# Altium footprint library IR.PcbLib: 7 footprints
Each footprint in its own frame and in the unit in brackets; x right, y up, seen from the top. Pads: shape width x height; smd on the part's side, far side on the other; paste and mask are expansions set on the pad; w line width, h text height; cw(c..) or ccw(c..) is an arc to the next point about the centre after c.
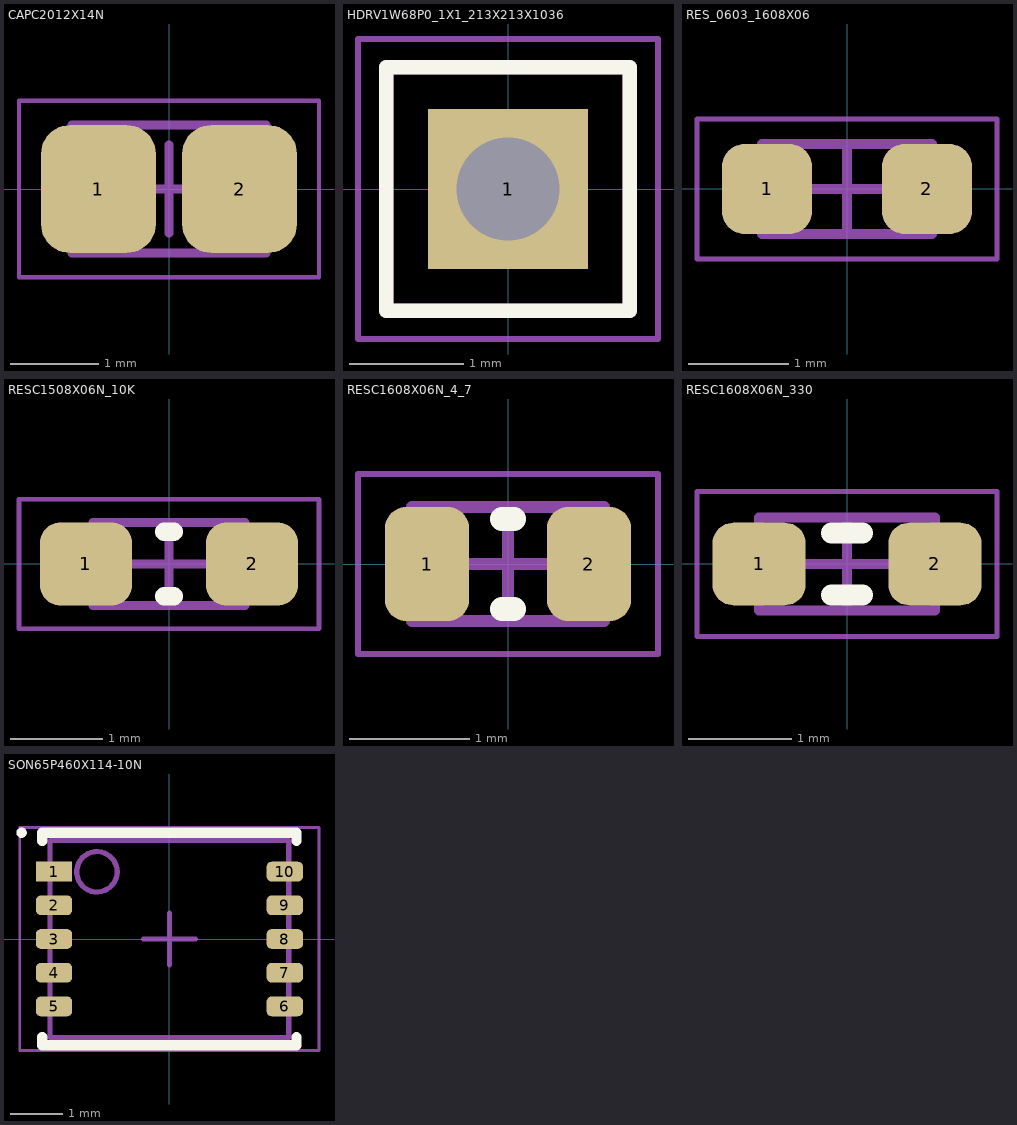
[diagram p0: the footprints below, top view; thin cyan lines are the x and y axes]

## CAPC2012X14N [mm] "Chip Capacitor, 2-Leads, Body 2.00x1.25mm, IPC Medium Density"
height 1.45
pads (2):
  rrect50% 1.3x1.45 smd mask+0.09: 1(-0.8,0) 2(0.8,0)
Mechanical 13:
  lines w0.1: -1.1,-0.725 1.1,-0.725 1.1,0.725 -1.1,0.725 -1.1,-0.725
  text ".Designator" at -0.865,-0.548 h0.8
Mechanical 15:
  lines w0.05: -1.7,-1 1.7,-1 1.7,1 -1.7,1 -1.7,-1
  lines w0.1: -0.5,0 0.5,0 ; 0,-0.5 0,0.5
3D body: height 1.45, standoff 0, extent 0.6,-0.725 1.1,0.725
3D body: height 1.45, standoff 0, extent -1.1,-0.725 -0.6,0.725
3D body: height 1.45, standoff 0, extent -0.6,-0.725 0.6,0.725

## HDRV1W68P0_1X1_213X213X1036 [mm]
pads (1):
  rect 1.408x1.408 hole 0.9: 1(0,0)
Top Overlay:
  lines w0.127: -1.067,-1.067 1.067,-1.067 1.067,1.067 -1.067,1.067 -1.067,-1.067
Mechanical 13:
  lines w0.127: -1.067,-1.067 1.067,-1.067 1.067,1.067 -1.067,1.067 -1.067,-1.067
  text ".Designator" at -0.686,-0.739 h1.44
Mechanical 15:
  lines w0.05: -1.317,-1.317 1.317,-1.317 1.317,1.317 -1.317,1.317 -1.317,-1.317
3D body "87224-1--3DModel-STEP-1.STEP": height 8.08, standoff -5.46, extent -1.067,-1.168 1.067,1.169

## RES_0603_1608X06 [mm] "Chip Resistor, 2-Leads, Body 1.60x0.80mm, IPC Medium Density"
height 0.55
pads (2):
  rrect50% 0.9x0.9 smd: 1(-0.8,0) 2(0.8,0)
Mechanical 13:
  lines w0.1: -0.85,-0.45 0.85,-0.45 0.85,0.45 -0.85,0.45 -0.85,-0.45
  text ".Designator" at -0.635,-0.254 h0.4
Mechanical 15:
  lines w0.05: -1.5,-0.7 1.5,-0.7 1.5,0.7 -1.5,0.7 -1.5,-0.7
  lines w0.1: -0.45,0 0.45,0 ; 0,-0.45 0,0.45
3D body "0603_1608X05N.step": height 0.45, standoff 0, extent -0.775,-0.425 0.775,0.425

## RESC1508X06N_10K [mm] "10k ohm, Chip Resistor, 2-Leads, Body 1.55x0.80mm, IPC Medium Density"
height 0.55
pads (2):
  rrect50% 1x0.9 smd: 1(-0.9,0) 2(0.9,0)
Top Overlay:
  lines w0.2: -0.05,-0.35 0.05,-0.35 ; -0.05,0.35 0.05,0.35
Mechanical 13:
  lines w0.1: -0.825,-0.45 0.825,-0.45 0.825,0.45 -0.825,0.45 -0.825,-0.45
  text ".Designator" at -0.51,-0.249 h0.4
Mechanical 15:
  lines w0.05: -1.626,-0.7 1.626,-0.7 1.626,0.7 -1.626,0.7 -1.626,-0.7
  lines w0.1: -0.45,0 0.45,0 ; 0,-0.45 0,0.45
3D body: height 0.55, standoff 0, extent 0.525,-0.45 0.825,0.45
3D body: height 0.55, standoff 0, extent -0.825,-0.45 -0.525,0.45
3D body: height 0.55, standoff 0, extent -0.525,-0.45 0.525,0.45

## RESC1608X06N_4_7 [mm] "4.7k ohm, Chip Resistor, 2-Leads, Body 1.55x0.85mm, IPC Medium Density"
height 0.55
pads (2):
  rrect50% 0.7x0.95 smd: 1(-0.675,0) 2(0.675,0)
Top Overlay:
  lines w0.2: -0.05,-0.375 0.05,-0.375 ; -0.05,0.375 0.05,0.375
Mechanical 13:
  lines w0.1: -0.8,-0.475 -0.8,0.475 0.8,0.475 0.8,-0.475 -0.8,-0.475
  text ".Designator" at -0.51,-0.326 h0.4
Mechanical 15:
  lines w0.05: -1.25,-0.75 -1.25,0.75 1.25,0.75 1.25,-0.75 -1.25,-0.75
  lines w0.1: -0.475,0 0.475,0 ; 0,-0.475 0,0.475
3D body "MCT 0603.stp": height 0.45, standoff 0, extent -0.775,-0.424 0.775,0.426

## RESC1608X06N_330 [mm] "330 ohm, Chip Resistor, 2-Leads, Body 1.60x0.80mm, IPC Medium Density"
height 0.55
pads (2):
  rrect50% 0.9x0.8 smd: 1(-0.85,0) 2(0.85,0)
Top Overlay:
  lines w0.2: -0.15,-0.3 0.15,-0.3 ; -0.15,0.3 0.15,0.3
Mechanical 13:
  lines w0.1: -0.85,-0.45 -0.85,0.45 0.85,0.45 0.85,-0.45 -0.85,-0.45
  text ".Designator" at -0.535,-0.275 h0.4
Mechanical 15:
  lines w0.05: -1.45,-0.7 -1.45,0.7 1.45,0.7 1.45,-0.7 -1.45,-0.7
  lines w0.1: -0.45,0 0.45,0 ; 0,-0.45 0,0.45
3D body: height 0.55, standoff 0, extent -0.6,-0.45 0.6,0.45
3D body: height 0.55, standoff 0, extent -0.85,-0.45 -0.6,0.45
3D body: height 0.55, standoff 0, extent 0.6,-0.45 0.85,0.45

## SON65P460X114-10N [mm] "SON, 10-Leads, Body 3.80x4.60mm, Pitch 0.65mm, IPC Medium Density"
height 1.14
pads (10):
  rect 0.7x0.38 smd mask+0.08: 1(-2.225,1.3)
  rrect50% 0.7x0.38 smd mask+0.08: 2(-2.225,0.65) 3(-2.225,0) 4(-2.225,-0.65) 5(-2.225,-1.3) 6(2.225,-1.3) 7(2.225,-0.65) 8(2.225,0) 9(2.225,0.65) 10(2.225,1.3)
Top Overlay:
  circle w0.1: c-2.85,2.05 r0.05
  lines w0.2: -2.45,-1.89 -2.45,-2.05 2.45,-2.05 2.45,-1.89 ; -2.45,1.89 -2.45,2.05 2.45,2.05 2.45,1.89
Mechanical 13:
  circle w0.1: c-1.397,1.295 r0.39
  lines w0.1: -2.3,-1.9 -2.3,1.9 2.3,1.9 2.3,-1.9 -2.3,-1.9
  text ".Designator" at -1.905,-1.499 h1.52
Mechanical 15:
  lines w0.05: -2.885,-2.15 -2.885,2.15 2.885,2.15 2.885,-2.15 -2.885,-2.15
  lines w0.1: -0.5,0 0.5,0 ; 0,-0.5 0,0.5
3D body: height 1.14, standoff 0, extent -2.3,-1.9 2.3,1.9